# EAGLE library part SIM7000G (library SIM7000G)
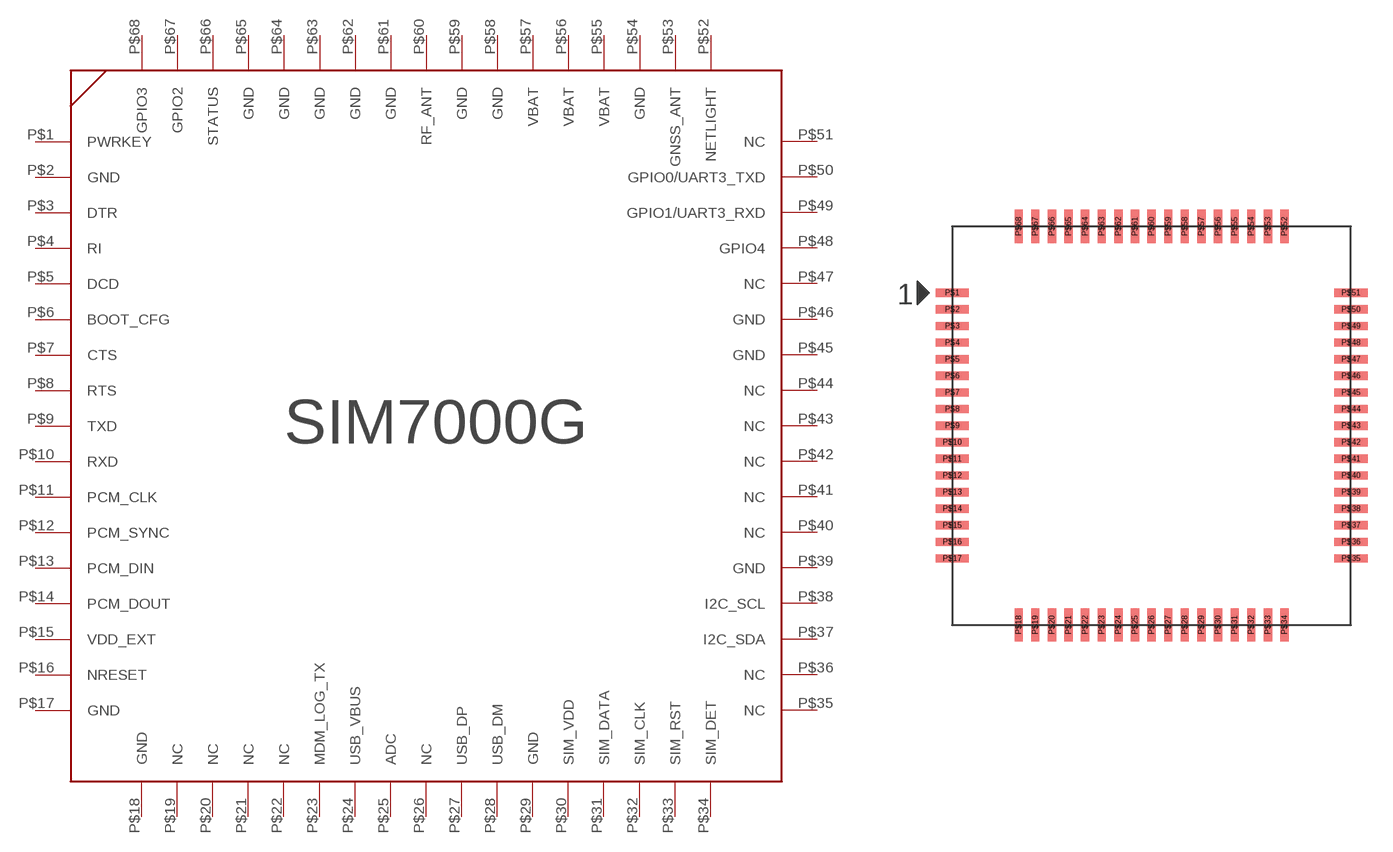
[diagram p0: symbol with the pads of SIM7000G; footprint SIM7000G]

Designator prefix -

## SIM7000G (CHECK_PRICES: https://www.snapeda.com/parts/SIM7000G/SIMCom/view-part/?ref=eda; DESCRIPTION: 802.15.4 Cat-M, Cat-NB, EDGE, GPRS, LPWA Transceiver Module 850MHz, 900MHz, 1.8GHz, 1.9GHz Antenna Not Included Surface Mount; MF: SIMCom Wireless Solutions Limited; MP: SIM7000G; PACKAGE: None; PURCHASE-URL: https://www.snapeda.com/api/url_track_click_mouser/?unipart_id=12130268&manufacturer=SIMCom Wireless Solutions Limited&part_name=SIM7000G&search_term=sim7000g; SNAPEDA_LINK: https://www.snapeda.com/parts/SIM7000G/SIMCom/view-part/?ref=snap)  [SIM7000G]
P$1  PWRKEY
P$2  GND
P$3  DTR
P$4  RI
P$5  DCD
P$6  BOOT_CFG
P$7  CTS
P$8  RTS
P$9  TXD
P$10  RXD
P$11  PCM_CLK
P$12  PCM_SYNC
P$13  PCM_DIN
P$14  PCM_DOUT
P$15  VDD_EXT
P$16  NRESET
P$17  GND
P$18  GND
P$19  NC
P$20  NC
P$21  NC
P$22  NC
P$23  MDM_LOG_TX
P$24  USB_VBUS
P$25  ADC
P$26  NC
P$27  USB_DP
P$28  USB_DM
P$29  GND
P$30  SIM_VDD
P$31  SIM_DATA
P$32  SIM_CLK
P$33  SIM_RST
P$34  SIM_DET
P$35  NC
P$36  NC
P$37  I2C_SDA
P$38  I2C_SCL
P$39  GND
P$40  NC
P$41  NC
P$42  NC
P$43  NC
P$44  NC
P$45  GND
P$46  GND
P$47  NC
P$48  GPIO4
P$49  GPIO1/UART3_RXD
P$50  GPIO0/UART3_TXD
P$51  NC
P$52  NETLIGHT
P$53  GNSS_ANT
P$54  GND
P$55  VBAT
P$56  VBAT
P$57  VBAT
P$58  GND
P$59  GND
P$60  RF_ANT
P$61  GND
P$62  GND
P$63  GND
P$64  GND
P$65  GND
P$66  STATUS
P$67  GPIO2
P$68  GPIO3

## Footprint SIM7000G (pad centres in mm)
smd 2 x 0.5: P$1 -12,8; P$2 -12,7; P$3 -12,6; P$4 -12,5; P$5 -12,4; P$6 -12,3; P$7 -12,2; P$8 -12,1; P$9 -12,0; P$10 -12,-1; P$11 -12,-2; P$12 -12,-3; P$13 -12,-4; P$14 -12,-5; P$15 -12,-6; P$16 -12,-7; P$17 -12,-8; P$35 12,-8; P$36 12,-7; P$37 12,-6; P$38 12,-5; P$39 12,-4; P$40 12,-3; P$41 12,-2; P$42 12,-1; P$43 12,0; P$44 12,1; P$45 12,2; P$46 12,3; P$47 12,4; P$48 12,5; P$49 12,6; P$50 12,7; P$51 12,8
smd 0.5 x 2: P$18 -8,-12; P$19 -7,-12; P$20 -6,-12; P$21 -5,-12; P$22 -4,-12; P$23 -3,-12; P$24 -2,-12; P$25 -1,-12; P$26 0,-12; P$27 1,-12; P$28 2,-12; P$29 3,-12; P$30 4,-12; P$31 5,-12; P$32 6,-12; P$33 7,-12; P$34 8,-12; P$52 8,12; P$53 7,12; P$54 6,12; P$55 5,12; P$56 4,12; P$57 3,12; P$58 2,12; P$59 1,12; P$60 0,12; P$61 -1,12; P$62 -2,12; P$63 -3,12; P$64 -4,12; P$65 -5,12; P$66 -6,12; P$67 -7,12; P$68 -8,12